# Altium footprint library BATTERY.PcbLib: 17 footprints (part 2 of 2)
Each footprint in its own frame and in the unit in brackets; x right, y up, seen from the top. Pads: shape width x height; smd on the part's side, far side on the other; paste and mask are expansions set on the pad; w line width, h text height; cw(c..) or ccw(c..) is an arc to the next point about the centre after c.
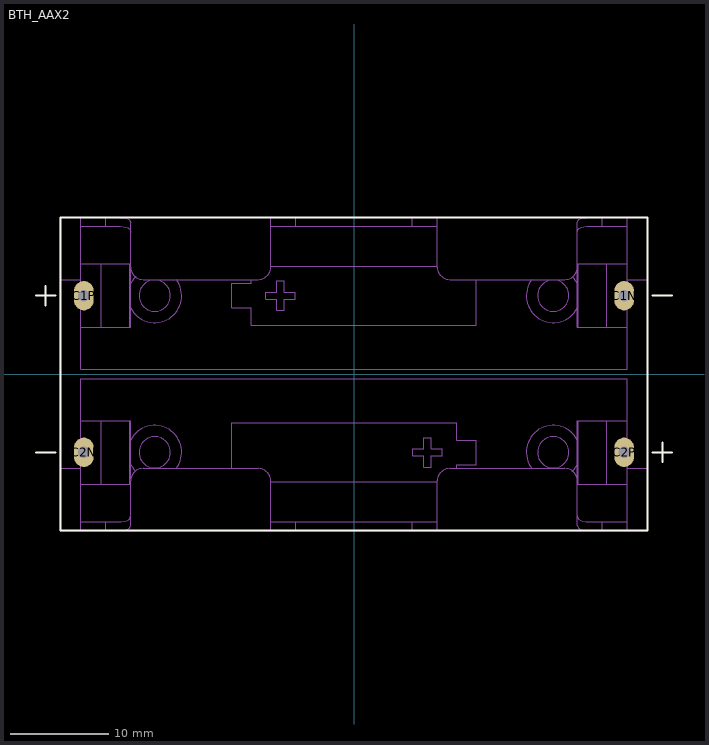
[diagram p1: the footprint, top view; thin cyan lines are the x and y axes]

## BTH_AAX2 [mm] "2-cell AA battery holder"
height 16.764
pads (4):
  oval 2x3 hole 1.2: C1N(27.6,8) C1P(-27.6,8) C2N(-27.6,-8) C2P(27.6,-8)
Top Overlay:
  lines w0.2: -32.5,-8 -30.5,-8 ; -32.5,8 -30.5,8 ; -31.5,7 -31.5,9 ; 30.5,-8 32.5,-8 ; 30.5,8 32.5,8 ; 31.5,-9 31.5,-7 ; -30,-16 30,-16 30,16 -30,16 -30,-16
Mechanical 13:
  drawing of 198 lines, arcs and shapes, not listed
3D body "2xAA Battery Holder.STEP": height 16.7, standoff -3, extent -30,-16 30,16